# Altium footprint library RD3399-20181026.PcbLib: 57 footprints (part 4 of 4)
Each footprint in its own frame and in the unit in brackets; x right, y up, seen from the top. Pads: shape width x height; smd on the part's side, far side on the other; paste and mask are expansions set on the pad; w line width, h text height; cw(c..) or ccw(c..) is an arc to the next point about the centre after c.
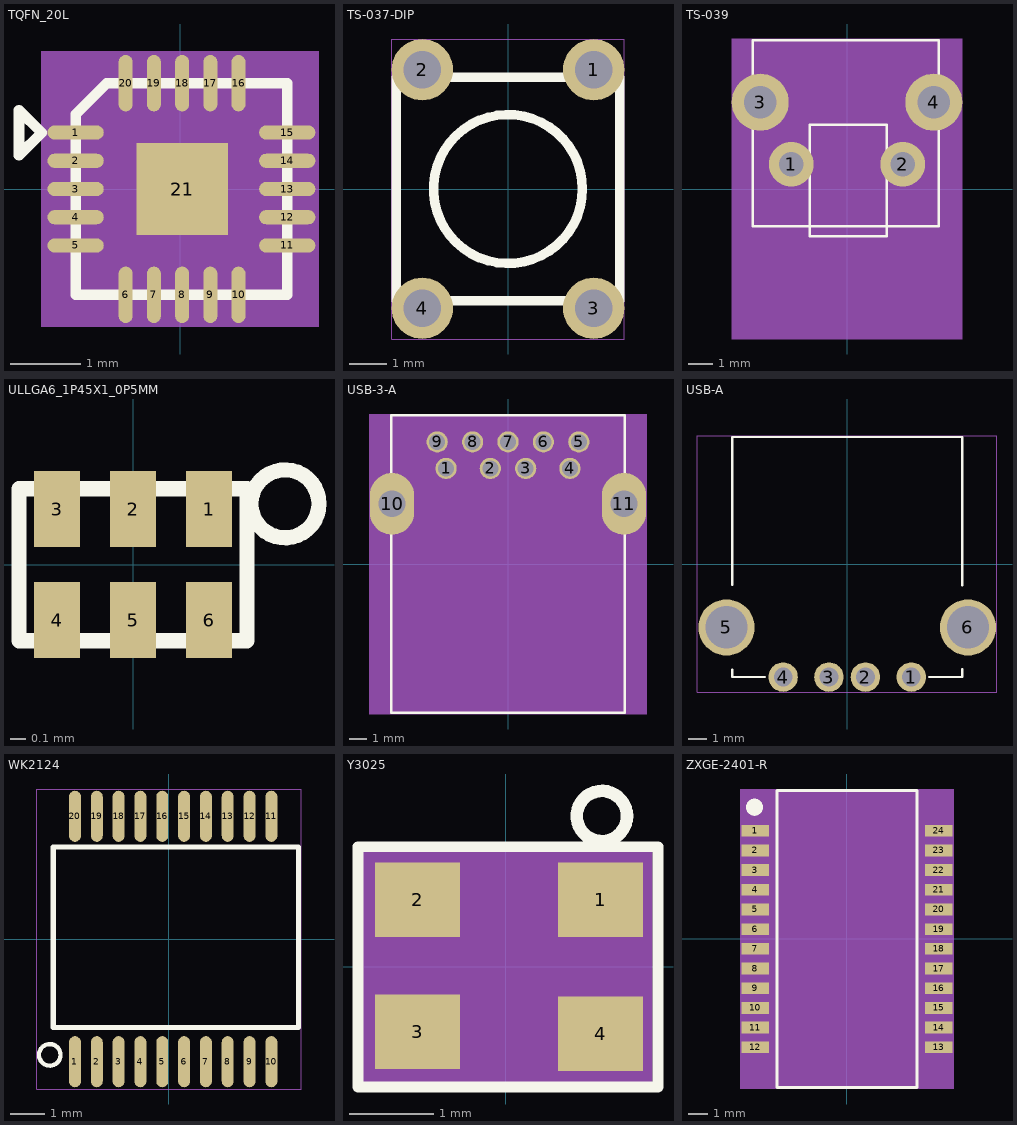
[diagram p3: the footprints below, top view; thin cyan lines are the x and y axes]

## TQFN_20L [mm] "TQFN_20L"
pads (21):
  oval 0.8x0.2 smd: 1(-1.48,0.8) 2(-1.48,0.4) 3(-1.48,0) 4(-1.48,-0.4) 5(-1.48,-0.8) 11(1.52,-0.8) 12(1.52,-0.4) 13(1.52,0) 14(1.52,0.4) 15(1.52,0.8)
  oval 0.2x0.8 smd: 6(-0.77,-1.5) 7(-0.37,-1.5) 8(0.03,-1.5) 9(0.43,-1.5) 10(0.83,-1.5) 16(0.83,1.5) 17(0.43,1.5) 18(0.03,1.5) 19(-0.37,1.5) 20(-0.77,1.5)
  rect 1.3x1.3 smd: 21(0.03,0)
Top Overlay:
  lines w0.15: -2.282,0.477 -2.282,1.117 -1.962,0.797 -2.282,0.477 ; -1.48,-1.5 1.52,-1.5 1.52,1.5 -1.04,1.5 -1.48,1.06 -1.48,-1.5
  text ".Designator" at 2.555,0.55 h0.8
Mechanical 7:
  text "9" at 0.43,-1.42 h0.2
  text "2" at -1.48,0.48 h0.2
  text "5" at -1.48,-0.72 h0.2
  text "10" at 0.83,-1.34 h0.2
  text "11" at 1.52,-0.64 h0.2
  text "16" at 0.83,1.66 h0.2
  text "20" at -0.77,1.66 h0.2
  text "14" at 1.52,0.56 h0.2
  text "21" at 0.03,0.16 h0.2
  text "1" at -1.48,0.88 h0.2
  text "13" at 1.52,0.16 h0.2
  text "15" at 1.52,0.96 h0.2
  text "19" at -0.37,1.66 h0.2
  text "3" at -1.48,0.08 h0.2
  text "18" at 0.03,1.66 h0.2
  text "17" at 0.43,1.66 h0.2
  text "12" at 1.52,-0.24 h0.2
  text "7" at -0.37,-1.42 h0.2
  text "6" at -0.77,-1.42 h0.2
  text "8" at 0.03,-1.42 h0.2
  text "4" at -1.48,-0.32 h0.2
Mechanical 8:
  region: -1.97,-1.95 1.97,-1.95 1.97,1.95 -1.97,1.95
Mechanical 9:
  text "AW8733TQR" at -0.87,-0.5 h1.27

## TS-037-DIP [mm] "TS-037-DIP"
pads (4):
  round 1.65 hole 1: 1(2.3,3.2) 2(-2.3,3.2) 3(2.3,-3.2) 4(-2.3,-3.2)
Top Overlay:
  circle w0.254: c0,0 r1.998
  lines w0.254: -3,-3 -3,3 3,3 3,-3 -3,-3
  text ".Designator" at -0.7,-4.4 h0.8
Mechanical 7:
  text "3" at 2.046,-3.2 h0.64
  text "4" at -2.554,-3.2 h0.64
  text "2" at -2.554,3.2 h0.64
  text "1" at 2.046,3.2 h0.64
Mechanical 8:
  lines w0.025: -3.125,-4.025 -3.125,4.025 3.125,4.025 3.125,-4.025 -3.125,-4.025
Mechanical 9:
  lines w0.025: -3.125,-4.025 -3.125,4.025 3.125,4.025 3.125,-4.025 -3.125,-4.025

## TS-039 [mm] "TS-039"
pads (4):
  round 1.8 hole 1: 1(-2.25,1) 2(2.25,1)
  round 2.3 hole 1.3: 3(-3.5,3.5) 4(3.5,3.5)
Top Overlay:
  lines w0.1: -3.8,-1.5 -3.8,6 3.7,6 3.7,-1.5 -3.8,-1.5 ; -1.5,-1.9 1.6,-1.9 1.6,2.6 0,2.6 -1.5,2.6 -1.5,-1.9
  text ".Designator" at 0.65,3.575 h0.8
Mechanical 7:
  text "2" at 1.044,1 h0.08
  text "4" at 2.294,3.5 h0.08
  text "3" at -4.706,3.5 h0.08
  text "1" at -3.456,1 h0.08
Mechanical 8:
  region: -4.65,-6.05 4.65,-6.05 4.65,6.05 -4.65,6.05
Mechanical 9:
  text "VOL+/RECOVERY" at -0.4,0.7 h0.6

## ULLGA6_1P45X1_0P5MM [mm] "ULLGA6_1P45X1_0P5MM"
pads (6):
  rect 0.3x0.5 smd: 1(0.5,0.365) 2(0,0.365) 3(-0.5,0.365) 4(-0.5,-0.365) 5(0,-0.365) 6(0.5,-0.365)
Top Overlay:
  circle w0.1: c1,0.4 r0.224
  lines w0.1: -0.75,-0.5 -0.75,0.5 0.75,0.5 0.75,-0.5 -0.75,-0.5
  text ".Designator" at -3.525,-0.375 h0.8
Mechanical 7:
  text "5" at -0.254,-0.365 h0.64
  text "3" at -0.754,0.365 h0.64
  text "6" at 0.246,-0.365 h0.64
  text "1" at 0.246,0.365 h0.64
  text "4" at -0.754,-0.365 h0.64
  text "2" at -0.254,0.365 h0.64
Mechanical 8:
  lines w0.025: -0.75,-0.515 -0.75,0.515 0.75,0.515 0.75,-0.515 -0.75,-0.515
Mechanical 9:
  lines w0.025: -0.75,-0.515 -0.75,0.515 0.75,0.515 0.75,-0.515 -0.75,-0.515
  text "NLSV1T34AMX1TCG" at -0.3,0 h0.8

## USB-3-A [mm] "USB-3-A"
pads (11):
  round 1.2 hole 0.9: 1(-3.5,5.4) 2(-1,5.4) 3(1,5.4) 4(3.5,5.4) 5(4,6.9) 6(2,6.9) 7(0,6.9) 8(-2,6.9) 9(-4,6.9)
  oval 2.5x3.5 hole 1.5: 10(-6.553,3.4) 11(6.553,3.4)
Top Overlay:
  lines w0.15: -6.6,-8.4 6.6,-8.4 6.6,8.4 -6.6,8.4 -6.6,5.4 -6.6,-8.4
Mechanical 7:
  text "4" at 3.561,5.4 h0.08
  text "7" at 0.061,6.9 h0.08
  text "5" at 4.061,6.9 h0.08
  text "2" at -0.939,5.4 h0.08
  text "6" at 2.061,6.9 h0.08
  text "3" at 1.061,5.4 h0.08
  text "1" at -3.439,5.4 h0.08
  text "8" at -1.939,6.9 h0.08
  text "9" at -3.939,6.9 h0.08
  text "10" at -6.431,3.4 h0.08
  text "11" at 6.675,3.4 h0.08
Mechanical 8:
  region: -7.853,-8.475 7.853,-8.475 7.853,8.475 -7.853,8.475

## USB-A [mil] "USB-A"
pads (6):
  round 62.99 hole 40: 1(137.5,-241.5) 2(39.5,-241.5) 3(-38.5,-241.5) 4(-136.5,-241.5)
  round 120 hole 90.55: 5(-257.5,-135.5) 6(258.5,-135.5)
Top Overlay:
  lines w5: -245.5,-225.5 -245.5,-241.5 -175.5,-241.5 ; -245.5,-44.5 -245.5,271.5 246.5,271.5 246.5,-45.5 ; 175.5,-241.5 246.5,-241.5 246.5,-224.5
  text ".Designator" at -377.45,-55.48 h31.5
Mechanical 7:
  text "5" at -259.9,-135.5 h3
  text "6" at 256.1,-135.5 h3
  text "4" at -138.9,-241.5 h3
  text "2" at 37.1,-241.5 h3
  text "3" at -40.9,-241.5 h3
  text "1" at 135.1,-241.5 h3
Mechanical 8:
  lines w1: -320.5,-274.5 -320.5,274.5 320.5,274.5 320.5,-274.5 -320.5,-274.5

## WK2124 [mm] "WK2124"
pads (20):
  oval 0.35x1.5 smd: 1(-2.758,-3.601) 2(-2.118,-3.601) 3(-1.478,-3.601) 4(-0.838,-3.601) 5(-0.198,-3.601) 6(0.442,-3.601) 7(1.082,-3.601) 8(1.722,-3.601) 9(2.362,-3.601) 10(3.003,-3.601) 11(3.003,3.601) 12(2.362,3.601) 13(1.722,3.601) 14(1.082,3.601) 15(0.442,3.601) 16(-0.198,3.601) 17(-0.838,3.601) 18(-1.478,3.601) 19(-2.118,3.601) 20(-2.758,3.601)
Top Overlay:
  circle w0.127: c-3.498,-3.4 r0.316
  lines w0.15: -3.398,-2.6 -3.398,2.7 3.802,2.7 3.802,-2.6 -3.398,-2.6
  text ".Designator" at 5.477,-3.3 h0.8
Mechanical 7:
  text "13" at 1.562,3.601 h0.2
  text "1" at -2.838,-3.601 h0.2
  text "2" at -2.198,-3.601 h0.2
  text "3" at -1.558,-3.601 h0.2
  text "18" at -1.638,3.601 h0.2
  text "9" at 2.282,-3.601 h0.2
  text "8" at 1.642,-3.601 h0.2
  text "4" at -0.918,-3.601 h0.2
  text "15" at 0.282,3.601 h0.2
  text "14" at 0.922,3.601 h0.2
  text "11" at 2.843,3.601 h0.2
  text "12" at 2.203,3.601 h0.2
  text "17" at -0.998,3.601 h0.2
  text "6" at 0.362,-3.601 h0.2
  text "16" at -0.358,3.601 h0.2
  text "7" at 1.002,-3.601 h0.2
  text "19" at -2.278,3.601 h0.2
  text "20" at -2.918,3.601 h0.2
  text "5" at -0.278,-3.601 h0.2
  text "10" at 2.843,-3.601 h0.2
Mechanical 8:
  lines w0.025: -3.877,-4.401 -3.877,4.401 3.877,4.401 3.877,-4.401 -3.877,-4.401
Mechanical 9:
  text "WK2124/VK3224/GM8412" at -0.698,1.5 h0.8

## Y3025 [mil] "Y3025"
pads (4):
  rect 40x35 smd: 1(44.66,31.5) 2(-41.34,31.5) 3(-41.34,-30.5) 4(44.66,-31.5)
Top Overlay:
  circle w5.91: c45.28,70.87 r11.81
  lines w5: -69.34,-56.5 -69.34,41.5 -69.34,56.5 71.66,56.5 71.66,-56.5 -69.34,-56.5
Mechanical 7:
  text "2" at -38.94,31.5 h3
  text "4" at 47.06,-31.5 h3
  text "3" at -38.94,-30.5 h3
  text "1" at 47.06,31.5 h3
Mechanical 8:
  region: -68.9,55.12 -68.9,-55.12 68.9,-55.12 68.9,55.12
Mechanical 9:
  text "11.0592MHz" at 25.59,-19.68 h27.56
  text ".Designator" at 26.57,12.8 h23.62

## ZXGE-2401-R [mm] "ZXGE-2401-R"
pads (24):
  rect 1.4x0.6 smd: 1(-4.675,5.5) 2(-4.675,4.5) 3(-4.675,3.5) 4(-4.675,2.5) 5(-4.675,1.5) 6(-4.675,0.5) 7(-4.675,-0.5) 8(-4.675,-1.5) 9(-4.675,-2.5) 10(-4.675,-3.5) 11(-4.675,-4.5) 12(-4.675,-5.5) 13(4.675,-5.5) 14(4.675,-4.5) 15(4.675,-3.5) 16(4.675,-2.5) 17(4.675,-1.5) 18(4.675,-0.5) 19(4.675,0.5) 20(4.675,1.5) 21(4.675,2.5) 22(4.675,3.5) 23(4.675,4.5) 24(4.675,5.5)
Top Overlay:
  pour cut-out: -4.7,6.276 -4.667,6.277 -4.634,6.281 -4.601,6.287 -4.569,6.296 -4.538,6.308 -4.507,6.322 -4.478,6.338 -4.451,6.357 -4.424,6.377 -4.4,6.4 -4.377,6.424 -4.357,6.451 -4.338,6.478 -4.322,6.507 -4.308,6.538 -4.296,6.569 -4.287,6.601 -4.281,6.634 -4.277,6.667 -4.276,6.7 -4.277,6.733 -4.281,6.766 -4.287,6.799 -4.296,6.831 -4.308,6.862 -4.322,6.893 -4.338,6.922 -4.357,6.949 -4.377,6.976 -4.4,7 -4.424,7.023 -4.451,7.043 -4.478,7.062 -4.507,7.078 -4.538,7.092 -4.569,7.104 -4.601,7.113 -4.634,7.119 -4.667,7.123 -4.7,7.124 -4.733,7.123 -4.766,7.119 -4.799,7.113 -4.831,7.104 -4.862,7.092 -4.893,7.078 -4.922,7.062 -4.949,7.043 -4.976,7.023 -5,7 -5.023,6.976 -5.043,6.949 -5.062,6.922 -5.078,6.893 -5.092,6.862 -5.104,6.831 -5.113,6.799 -5.119,6.766 -5.123,6.733 -5.124,6.7 -5.123,6.667 -5.119,6.634 -5.113,6.601 -5.104,6.569 -5.092,6.538 -5.078,6.507 -5.062,6.478 -5.043,6.451 -5.023,6.424 -5,6.4 -4.976,6.377 -4.949,6.357 -4.922,6.338 -4.893,6.322 -4.862,6.308 -4.831,6.296 -4.799,6.287 -4.766,6.281 -4.733,6.277
  lines w0.15: -3.55,-7.55 -3.55,7.55 3.55,7.55 3.55,-7.55 -3.55,-7.55
  text ".Designator" at -1.95,-9 h0.8
Mechanical 7:
  text "2" at -4.675,4.703 h0.51
  text "12" at -4.675,-5.094 h0.51
  text "6" at -4.675,0.703 h0.51
  text "9" at -4.675,-2.297 h0.51
  text "3" at -4.675,3.703 h0.51
  text "8" at -4.675,-1.297 h0.51
  text "5" at -4.675,1.703 h0.51
  text "11" at -4.675,-4.094 h0.51
  text "14" at 4.675,-4.094 h0.51
  text "20" at 4.675,1.906 h0.51
  text "17" at 4.675,-1.094 h0.51
  text "21" at 4.675,2.906 h0.51
  text "19" at 4.675,0.906 h0.51
  text "15" at 4.675,-3.094 h0.51
  text "23" at 4.675,4.906 h0.51
  text "7" at -4.675,-0.297 h0.51
  text "4" at -4.675,2.703 h0.51
  text "1" at -4.675,5.703 h0.51
  text "10" at -4.675,-3.094 h0.51
  text "16" at 4.675,-2.094 h0.51
  text "24" at 4.675,5.906 h0.51
  text "18" at 4.675,-0.094 h0.51
  text "22" at 4.675,3.906 h0.51
  text "13" at 4.675,-5.094 h0.51
Mechanical 8:
  region: -5.425,-7.625 5.425,-7.625 5.425,7.625 -5.425,7.625
Mechanical 9:
  text "ZXGE-2401-R" at -0.5,0.3 h1.27